# EAGLE library part 40109 (library harrison)
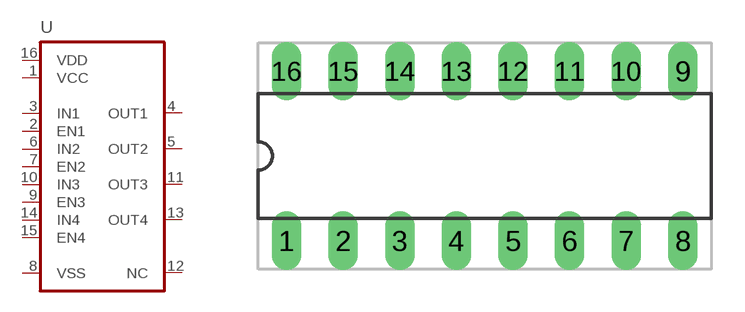
[diagram p23: symbol with the pads of DIL16; footprint DIL16]

Designator prefix U

## 40109  [DIL16]
1  VCC  pwr
2  EN1  in
3  IN1  in
4  OUT1  out
5  OUT2  out
6  IN2  in
7  EN2  in
8  VSS  pwr
9  EN3  in
10  IN3  in
11  OUT3  out
12  NC  nc
13  OUT4  out
14  IN4  in
15  EN4  in
16  VDD  pwr

## Footprint DIL16 (pad centres in mm)
drill 0.813 long: 1 -8.89,-3.81; 2 -6.35,-3.81; 3 -3.81,-3.81; 4 -1.27,-3.81; 5 1.27,-3.81; 6 3.81,-3.81; 7 6.35,-3.81; 8 8.89,-3.81; 9 8.89,3.81; 10 6.35,3.81; 11 3.81,3.81; 12 1.27,3.81; 13 -1.27,3.81; 14 -3.81,3.81; 15 -6.35,3.81; 16 -8.89,3.81